# EAGLE library part GRPB212VWQP (library con-sullins-grpb)
HEADER
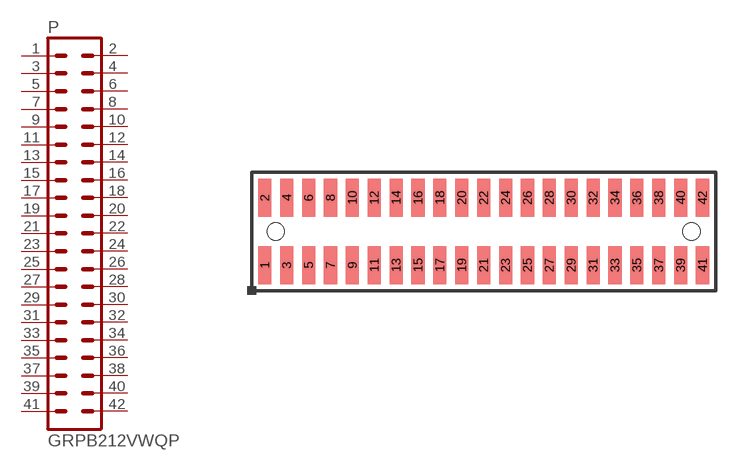
[diagram p18: symbol with the pads of GRPB212VWQP; footprint GRPB212VWQP]

Designator prefix P

## GRPB212VWQP  [GRPB212VWQP]
1  1  pas
2  2  pas
3  3  pas
4  4  pas
5  5  pas
6  6  pas
7  7  pas
8  8  pas
9  9  pas
10  10  pas
11  11  pas
12  12  pas
13  13  pas
14  14  pas
15  15  pas
16  16  pas
17  17  pas
18  18  pas
19  19  pas
20  20  pas
21  21  pas
22  22  pas
23  23  pas
24  24  pas
25  25  pas
26  26  pas
27  27  pas
28  28  pas
29  29  pas
30  30  pas
31  31  pas
32  32  pas
33  33  pas
34  34  pas
35  35  pas
36  36  pas
37  37  pas
38  38  pas
39  39  pas
40  40  pas
41  41  pas
42  42  pas

## Footprint GRPB212VWQP (pad centres in mm)
HEADER
smd 0.762 x 2.21: 1 -12.7,-1.956; 2 -12.7,1.956; 3 -11.43,-1.956; 4 -11.43,1.956; 5 -10.16,-1.956; 6 -10.16,1.956; 7 -8.89,-1.956; 8 -8.89,1.956; 9 -7.62,-1.956; 10 -7.62,1.956; 11 -6.35,-1.956; 12 -6.35,1.956; 13 -5.08,-1.956; 14 -5.08,1.956; 15 -3.81,-1.956; 16 -3.81,1.956; 17 -2.54,-1.956; 18 -2.54,1.956; 19 -1.27,-1.956; 20 -1.27,1.956; 21 0,-1.956; 22 0,1.956; 23 1.27,-1.956; 24 1.27,1.956; 25 2.54,-1.956; 26 2.54,1.956; 27 3.81,-1.956; 28 3.81,1.956; 29 5.08,-1.956; 30 5.08,1.956; 31 6.35,-1.956; 32 6.35,1.956; 33 7.62,-1.956; 34 7.62,1.956; 35 8.89,-1.956; 36 8.89,1.956; 37 10.16,-1.956; 38 10.16,1.956; 39 11.43,-1.956; 40 11.43,1.956; 41 12.7,-1.956; 42 12.7,1.956
hole 1 at -12.065,0
hole 1 at 12.065,0